# EAGLE library part PIO_10 (library My_BLE)
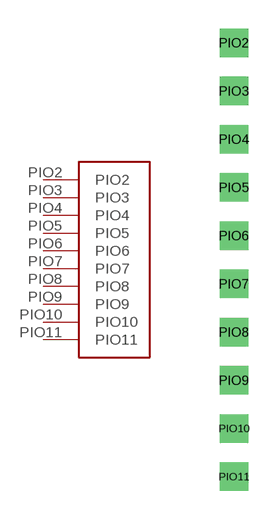
[diagram p1: symbol with the pads of PIO_10; footprint PIO_10]

Designator prefix -

## PIO_10  [PIO_10]
PIO2  PIO2
PIO3  PIO3
PIO4  PIO4
PIO5  PIO5
PIO6  PIO6
PIO7  PIO7
PIO8  PIO8
PIO9  PIO9
PIO10  PIO10
PIO11  PIO11

## Footprint PIO_10 (pad centres in mm)
drill 1 square: PIO2 0,12.7; PIO3 0,10.16; PIO4 0,7.62; PIO5 0,5.08; PIO6 0,2.54; PIO7 0,0; PIO8 0,-2.54; PIO9 0,-5.08; PIO10 0,-7.62; PIO11 0,-10.16